# EAGLE library part SBH11-*-D05-? (library RoboJackets-Connectors)
Description: Connector Header Through Hole, 10 position 0.100" (2.54mm) Link Right-Angle: Digi-Key <https://www.digikey.com/product-detail/en/sullins-connector-solutions/SBH11-PBPC-D05-RA-BK/S9177-ND/1990070> Link Vertical: Digi-Key <https://www.digikey.com/product-detail/en/sullins-connector-solutions/SFH11-PBPC-D05-ST-BK/S9194-ND/1990087>
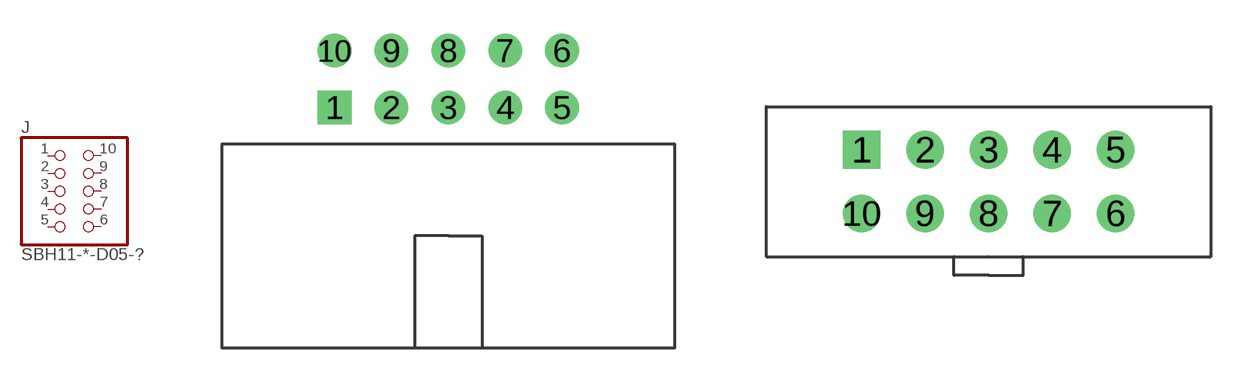
[diagram p9: symbol with the pads of SBH11-*-D05-RA; footprints SBH11-*-D05-RA, SFH11-*-D05-ST]

Designator prefix J

## SBH11-PBPC-D05-RA (DKPN: S9177-ND)  [SBH11-*-D05-RA]
1  1  pas
2  3  pas
3  5  pas
4  7  pas
5  9  pas
6  10  pas
7  8  pas
8  6  pas
9  4  pas
10  2  pas

## SBH11-PBPC-D05-ST (DKPN: S9194-ND)  [SFH11-*-D05-ST]
Pads as for SBH11-*-D05-RA

## Footprint SBH11-*-D05-RA (pad centres in mm)
drill 1 square: 1 -5.08,-1.27
drill 1: 2 -2.54,-1.27; 3 0,-1.27; 4 2.54,-1.27; 5 5.08,-1.27; 6 5.08,1.27; 7 2.54,1.27; 8 0,1.27; 9 -2.54,1.27; 10 -5.08,1.27

## Footprint SFH11-*-D05-ST (pad centres in mm)
drill 1 square: 1 -5.08,1.27
drill 1: 2 -2.54,1.27; 3 0,1.27; 4 2.54,1.27; 5 5.08,1.27; 6 5.08,-1.27; 7 2.54,-1.27; 8 0,-1.27; 9 -2.54,-1.27; 10 -5.08,-1.27